# EAGLE library part PINHD-3X8 (library pinhead)
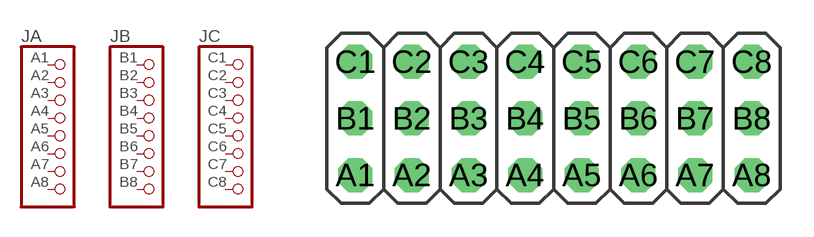
[diagram p42: symbol with the pads of 3X08; footprint 3X08]

Designator prefix J; gates A=PINHD8 C=PINHD8 B=PINHD8

## PINHD-3X8  [3X08]
A1  A:1  pas
A2  A:2  pas
A3  A:3  pas
A4  A:4  pas
A5  A:5  pas
A6  A:6  pas
A7  A:7  pas
A8  A:8  pas
B1  B:1  pas
B2  B:2  pas
B3  B:3  pas
B4  B:4  pas
B5  B:5  pas
B6  B:6  pas
B7  B:7  pas
B8  B:8  pas
C1  C:1  pas
C2  C:2  pas
C3  C:3  pas
C4  C:4  pas
C5  C:5  pas
C6  C:6  pas
C7  C:7  pas
C8  C:8  pas

## Footprint 3X08 (pad centres in mm)
3x8 pinheader
drill 1.016 octagon: A1 -8.89,-1.27; A2 -6.35,-1.27; A3 -3.81,-1.27; A4 -1.27,-1.27; A5 1.27,-1.27; A6 3.81,-1.27; A7 6.35,-1.27; A8 8.89,-1.27; B1 -8.89,1.27; B2 -6.35,1.27; B3 -3.81,1.27; B4 -1.27,1.27; B5 1.27,1.27; B6 3.81,1.27; B7 6.35,1.27; B8 8.89,1.27; C1 -8.89,3.81; C2 -6.35,3.81; C3 -3.81,3.81; C4 -1.27,3.81; C5 1.27,3.81; C6 3.81,3.81; C7 6.35,3.81; C8 8.89,3.81